# Altium schematic symbol library TEST_POINT.SchLib: 2 symbols
Pins are listed as number, name and electrical type; pins without a type are passive.

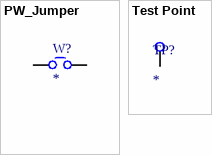
[diagram p0: symbols PW_Jumper to Test Point]

## PW_Jumper
designator W?
Jumper Zero Ohm SMT Reel | Keystone Electronics 5110; MF: Keystone Electronics Corp.; MP: 5110; SnapEDA_Link: https://www.snapeda.com/parts/5110/Keystone/view-part/?ref=snap; Package: None; Value: *; Check_prices: https://www.snapeda.com/parts/5110/Keystone/view-part/?ref=eda
footprint Solder_Power_Jumper_Single
pins: 1, 2

## Test Point
designator TP?
pins: 1 TP